# EAGLE library part MAX3232CDE4 (library max3232)
RS-232 Line Driver/receiver
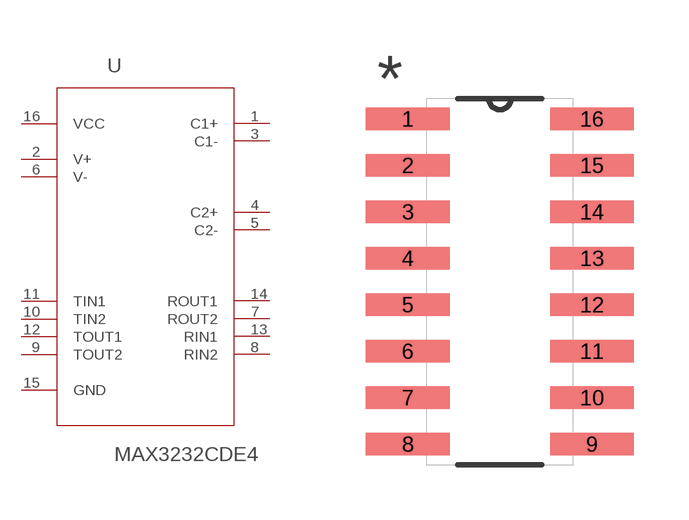
[diagram p0: symbol with the pads of SOIC127P600X175-16N; footprint SOIC127P600X175-16N]

Designator prefix U

## MAX3232CDE4 (MPN: MAX3232CDE4; OC_FARNELL: 1287437; OC_NEWARK: 26M0604; PACKAGE: SOIC-16; SUPPLIER: Texas Instrument)  [SOIC127P600X175-16N]
1  C1+  pas
2  V+  in
3  C1-  pas
4  C2+  pas
5  C2-  pas
6  V-  in
7  ROUT2  out
8  RIN2  in
9  TOUT2  out
10  TIN2  in
11  TIN1  in
12  TOUT1  out
13  RIN1  in
14  ROUT1  out
15  GND  pas
16  VCC  pwr

## Footprint SOIC127P600X175-16N (pad centres in mm)
smd 2.286 x 0.61: 1 -2.515,4.445; 2 -2.515,3.175; 3 -2.515,1.905; 4 -2.515,0.635; 5 -2.515,-0.635; 6 -2.515,-1.905; 7 -2.515,-3.175; 8 -2.515,-4.445; 9 2.515,-4.445; 10 2.515,-3.175; 11 2.515,-1.905; 12 2.515,-0.635; 13 2.515,0.635; 14 2.515,1.905; 15 2.515,3.175; 16 2.515,4.445